# EAGLE library part FERRITE_ARRAY (library Ferrite)
Ferrite Chip Array Use Value to list part number
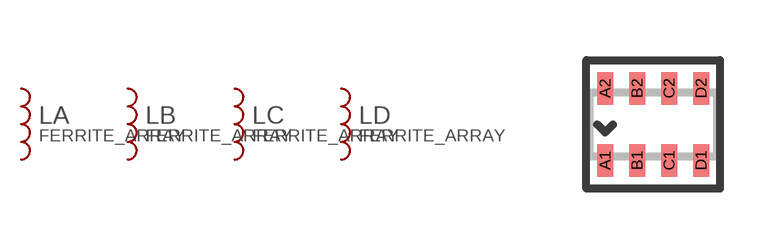
[diagram p0: symbol with the pads of 1206_ARRAY_8PAD; footprint 1206_ARRAY_8PAD]

Designator prefix L; gates A=L B=L C=L D=L

## FERRITE_ARRAY_1206  [1206_ARRAY_8PAD]
A1  A:1  pas
A2  A:2  pas
B1  B:1  pas
B2  B:2  pas
C1  C:1  pas
C2  C:2  pas
D1  D:1  pas
D2  D:2  pas

## Footprint 1206_ARRAY_8PAD (pad centres in mm)
1206 Chip Array 0.8mm pitch
smd 0.406 x 0.813: A1 -1.2,-0.9; A2 -1.2,0.9; B1 -0.4,-0.9; B2 -0.4,0.9; C1 0.4,-0.9; C2 0.4,0.9; D1 1.2,-0.9; D2 1.2,0.9